# Altium schematic symbol library Schlib1.SchLib: 4 symbols
Pins are listed as number, name and electrical type; pins without a type are passive.

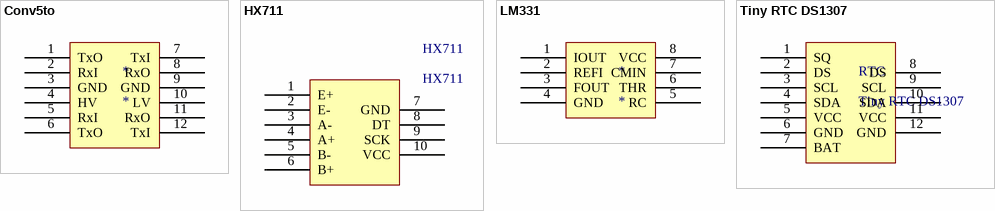
[diagram p0: symbols Conv5to to Tiny RTC DS1307]

## Conv5to
designator *
footprint DIP10
pins: 1 TxO, 2 RxI, 3 GND, 4 HV, 5 RxI, 6 TxO, 7 TxI, 8 RxO, 9 GND, 10 LV, 11 RxO, 12 TxI

## HX711
designator HX711
footprint HX711
pins: 1 E+, 2 E-, 3 A-, 4 A+, 5 B-, 6 B+, 7 GND, 8 DT, 9 SCK, 10 VCC

## LM331
designator *
footprint DIP8
pins: 1 IOUT, 2 REFI, 3 FOUT, 4 GND, 5 RC, 6 THR, 7 CMIN, 8 VCC

## Tiny RTC DS1307
designator RTC
footprint TinyRTC
pins: 1 SQ, 2 DS, 3 SCL, 4 SDA, 5 VCC, 6 GND, 7 BAT, 8 DS, 9 SCL, 10 SDA, 11 VCC, 12 GND